# Altium schematic symbol library CustomComponents.SchLib: 3 symbols
Pins are listed as number, name and electrical type; pins without a type are passive.

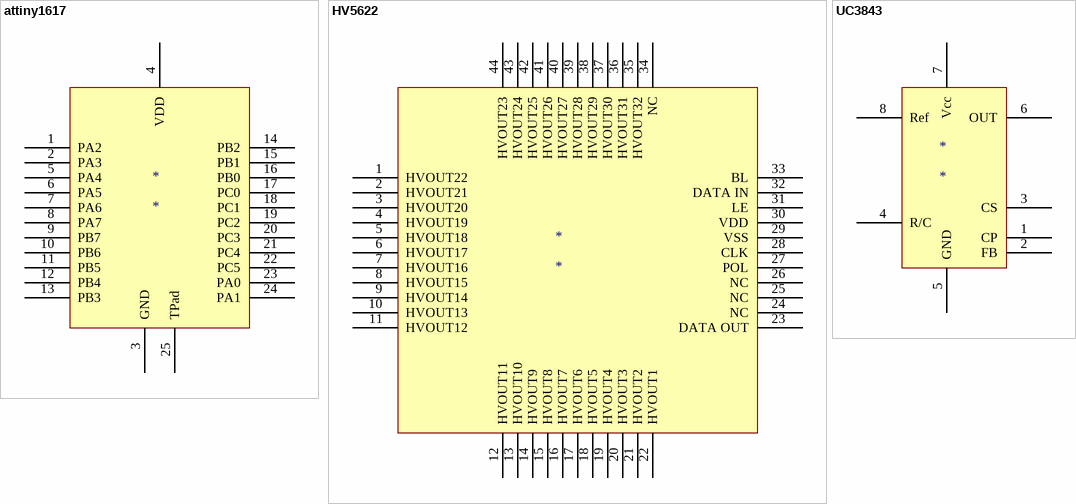
[diagram p0: symbols attiny1617 to UC3843]

## attiny1617
designator *
footprint Quad24 - 1617
pins: 1 PA2, 2 PA3, 3 GND, 4 VDD, 5 PA4, 6 PA5, 7 PA6, 8 PA7, 9 PB7, 10 PB6, 11 PB5, 12 PB4, 13 PB3, 14 PB2, 15 PB1, 16 PB0, 17 PC0, 18 PC1, 19 PC2, 20 PC3, 21 PC4, 22 PC5, 23 PA0, 24 PA1, 25 TPad

## HV5622
designator *
footprint Quad44 PLCC
pins: 1 HVOUT22, 2 HVOUT21, 3 HVOUT20, 4 HVOUT19, 5 HVOUT18, 6 HVOUT17, 7 HVOUT16, 8 HVOUT15, 9 HVOUT14, 10 HVOUT13, 11 HVOUT12, 12 HVOUT11, 13 HVOUT10, 14 HVOUT9, 15 HVOUT8, 16 HVOUT7, 17 HVOUT6, 18 HVOUT5, 19 HVOUT4, 20 HVOUT3, 21 HVOUT2, 22 HVOUT1, 23 DATA OUT, 24 NC, 25 NC, 26 NC, 27 POL, 28 CLK, 29 VSS, 30 VDD, 31 LE, 32 DATA IN, 33 BL, 34 NC, 35 HVOUT32, 36 HVOUT31, 37 HVOUT30, 38 HVOUT29, 39 HVOUT28, 40 HVOUT27, 41 HVOUT26, 42 HVOUT25, 43 HVOUT24, 44 HVOUT23

## UC3843
designator *
footprint UC3843BD1
pins: 1 CP, 2 FB, 3 CS, 4 R/C, 5 GND, 6 OUT, 7 Vcc, 8 Ref